# Altium schematic symbol library Transistor.SchLib: 37 symbols
Pins are listed as number, name and electrical type; pins without a type are passive.

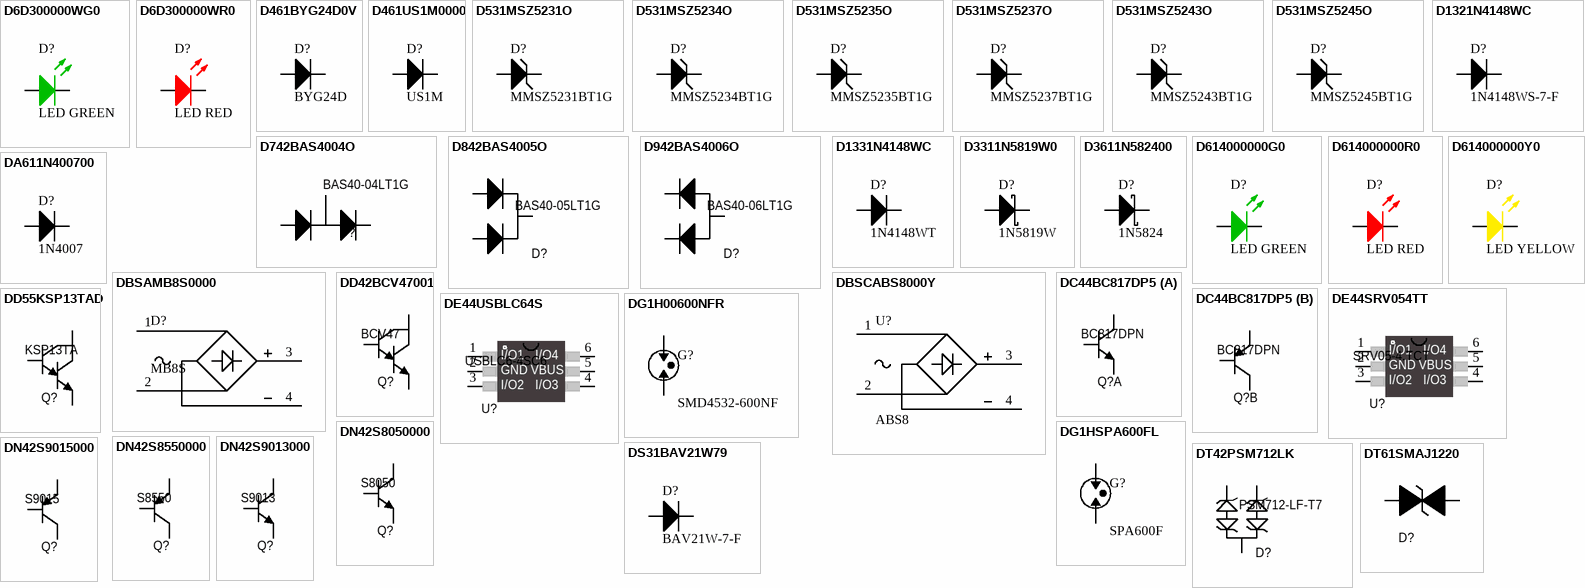
[diagram p0: symbols D6D300000WG0 to DT61SMAJ1220]

## D6D300000WG0
designator D?, comment LED GREEN
LIGHT EMITTING DIODE 3MM GREEN; TemperatureRange: -30 to 85°C; VenderID: LED-3MM-GREEN; Published: 1-Jun-2017; Publisher: GreenBox; PackageReference: LED-3MM-0; MountType: DIP; Manufacturer: *
footprint LED-3MM-0 (Typical INFRARED GaAs LED; 2 Leads)
simulation model LED0 (Diode)
pins: 1, 2

## D6D300000WR0
designator D?, comment LED RED
LIGHT EMITTING DIODE 3MM RED; TemperatureRange: -30 to 85°C; VenderID: LED-3MM-RED; Published: 1-Jun-2017; Publisher: GreenBox; PackageReference: LED-3MM-0; MountType: DIP; Manufacturer: *
footprint LED-3MM-0 (Typical INFRARED GaAs LED; 2 Leads)
simulation model LED0 (Diode)
pins: 1, 2

## D461BYG24D0V
designator D?, comment BYG24D
Fast Recovery Rectifiers BYG24D Vrrm 200V If 1.5A 140nS; Manufacturer: VISHAY; TemperatureRange: -55°C to 150°C; Published: 1-Jun-2017; Publisher: GreenBox; PackageReference: DO-214AC; MountType: SMT; VenderID: BYG24D
footprint DO-214AC (DO-214-AC/SMA; 2 C-Bend Leads; Body 5 x 2.7 mm, inc. leads (LxW))
pins: 1 A, 2 K

## D461US1M0000
designator D?, comment US1M
Fast Recovery Rectifiers US1M Vrrm 1000V If 1A 75nS; TemperatureRange: -65°C to 150°C; Published: 1-Jun-2017; Publisher: GreenBox; PackageReference: DO-214AC; MountType: SMT; VenderID: US1M; Manufacturer: *
footprint DO-214AC (DO-214-AC/SMA; 2 C-Bend Leads; Body 5 x 2.7 mm, inc. leads (LxW))
pins: 1 A, 2 K

## D531MSZ5231O
designator D?, comment MMSZ5231BT1G
Zener Voltage Regulators MMSZ5231BT1G 5V1 0W5; Manufacturer: ON SEMICONDUCTOR; TemperatureRange: -55°C to 150°C; Published: 1-Jun-2017; Publisher: GreenBox; PackageReference: SOD-123; MountType: SMT; VenderID: MMSZ5231BT1G
footprint SOD-123 (SOD-123/SC-77; 2 Leads; Body 2.7 x 1.6 mm, (LxW))
pins: 1 A, 2 K

## D531MSZ5234O
designator D?, comment MMSZ5234BT1G
Zener Voltage Regulators MMSZ5234BT1G 6V2 0W5; Manufacturer: ON SEMICONDUCTOR; TemperatureRange: -55°C to 150°C; Published: 1-Jun-2017; Publisher: GreenBox; PackageReference: SOD-123; MountType: SMT; VenderID: MMSZ5234BT1G
footprint SOD-123 (SOD-123/SC-77; 2 Leads; Body 2.7 x 1.6 mm, (LxW))
pins: 1 A, 2 K

## D531MSZ5235O
designator D?, comment MMSZ5235BT1G
Zener Voltage Regulators MMSZ5235BT1G 6V8 0W5; Manufacturer: ON SEMICONDUCTOR; TemperatureRange: -55°C to 150°C; Published: 1-Jun-2017; Publisher: GreenBox; PackageReference: SOD-123; MountType: SMT; VenderID: MMSZ5235BT1G
footprint SOD-123 (SOD-123/SC-77; 2 Leads; Body 2.7 x 1.6 mm, (LxW))
pins: 1 A, 2 K

## D531MSZ5237O
designator D?, comment MMSZ5237BT1G
Zener Voltage Regulators MMSZ5237BT1G 8V2 0W5; Manufacturer: ON SEMICONDUCTOR; TemperatureRange: -55°C to 150°C; Published: 1-Jun-2017; Publisher: GreenBox; PackageReference: SOD-123; MountType: SMT; VenderID: MMSZ5237BT1G
footprint SOD-123 (SOD-123/SC-77; 2 Leads; Body 2.7 x 1.6 mm, (LxW))
pins: 1 A, 2 K

## D531MSZ5243O
designator D?, comment MMSZ5243BT1G
Zener Voltage Regulators MMSZ5243BT1G 13V 0W5; Manufacturer: ON SEMICONDUCTOR; TemperatureRange: -55°C to 150°C; Published: 1-Jun-2017; Publisher: GreenBox; PackageReference: SOD-123; MountType: SMT; VenderID: MMSZ5243BT1G
footprint SOD-123 (SOD-123/SC-77; 2 Leads; Body 2.7 x 1.6 mm, (LxW))
pins: 1 A, 2 K

## D531MSZ5245O
designator D?, comment MMSZ5245BT1G
Zener Voltage Regulators MMSZ5245BT1G 15V 0W5; Manufacturer: ON SEMICONDUCTOR; TemperatureRange: -55°C to 150°C; Published: 1-Jun-2017; Publisher: GreenBox; PackageReference: SOD-123; MountType: SMT; VenderID: MMSZ5245BT1G
footprint SOD-123 (SOD-123/SC-77; 2 Leads; Body 2.7 x 1.6 mm, (LxW))
pins: 1 A, 2 K

## D742BAS4004O
designator D?, comment BAS40-04LT1G
Dual Series Schottky Barrier Diode BAS40-04LT1G Vrrm 40V If 0.12A Ir 1uA; Manufacturer: ON SEMICONDUCTOR; TemperatureRange: -55 to 150°C; MountType: SMT; PackageReference: SOT-23; Published: 1-Jun-2017; Publisher: GreenBox; VenderID: BAS40-04LT1G
footprint SOT-23_N (SOT23, 3-Leads, Body 2.9x1.3mm, Pitch 0.95mm, Lead Span 2.5mm, IPC Medium Density)
footprint SOT-23_L (SOT23, 3-Leads, Body 2.9x1.3mm, Pitch 0.95mm, Lead Span 2.5mm, IPC High Density)
footprint SOT-23_M (SOT23, 3-Leads, Body 2.9x1.3mm, Pitch 0.95mm, Lead Span 2.5mm, IPC Low Density)
pins: 1 A, 2 K, 3 C

## D842BAS4005O
designator D?, comment BAS40-05LT1G
Dual Series Schottky Barrier Diode BAS40-05LT1G Vrrm 40V If 0.12A Ir 1uA; Manufacturer: ON SEMICONDUCTOR; TemperatureRange: -55 to 150°C; MountType: SMT; PackageReference: SOT-23; Published: 1-Jun-2017; Publisher: GreenBox; VenderID: BAS40-05LT1G
footprint SOT-23_N (SOT23, 3-Leads, Body 2.9x1.3mm, Pitch 0.95mm, Lead Span 2.5mm, IPC Medium Density)
footprint SOT-23_L (SOT23, 3-Leads, Body 2.9x1.3mm, Pitch 0.95mm, Lead Span 2.5mm, IPC High Density)
footprint SOT-23_M (SOT23, 3-Leads, Body 2.9x1.3mm, Pitch 0.95mm, Lead Span 2.5mm, IPC Low Density)
pins: 1, 2, 3

## D942BAS4006O
designator D?, comment BAS40-06LT1G
Dual Series Schottky Barrier Diode BAS40-06LT1G Vrrm 40V If 0.12A Ir 1uA; Manufacturer: ON SEMICONDUCTOR; TemperatureRange: -55 to 150°C; MountType: SMT; PackageReference: SOT-23; Published: 1-Jun-2017; Publisher: GreenBox; VenderID: BAS40-06LT1G
footprint SOT-23_N (SOT23, 3-Leads, Body 2.9x1.3mm, Pitch 0.95mm, Lead Span 2.5mm, IPC Medium Density)
footprint SOT-23_L (SOT23, 3-Leads, Body 2.9x1.3mm, Pitch 0.95mm, Lead Span 2.5mm, IPC High Density)
footprint SOT-23_M (SOT23, 3-Leads, Body 2.9x1.3mm, Pitch 0.95mm, Lead Span 2.5mm, IPC Low Density)
pins: 1, 2, 3

## D1321N4148WC
designator D?, comment 1N4148WS-7-F
SIGNAL DIODE 1N4148WS-7-F Vrrm 75V If 1A; Manufacturer: CHANGJIANG ELECTRONICS; TemperatureRange: -65°C to 150°C; Published: 1-Jun-2017; Publisher: GreenBox; PackageReference: SOD-323; MountType: SMT; VenderID: 1N4148WS-7-F
footprint SOD-323 (SOD-323/SC-76; 2 Leads; Body 1.7 x 1.3 mm, (LxW))
pins: 1 A, 2 K

## D1331N4148WC
designator D?, comment 1N4148WT
SIGNAL DIODE 1N4148WT Vrrm 75V If 1A; Manufacturer: CHANGJIANG ELECTRONICS; TemperatureRange: -65°C to 150°C; Published: 1-Jun-2017; Publisher: GreenBox; PackageReference: SOD-523; MountType: SMT; VenderID: 1N4148WT
footprint SOD-523 (SOD-523/SC-79; 2 Leads; Body 1.2 x 0.8 mm, (LxW))
pins: 1 A, 2 K

## D3311N5819W0
designator D?, comment 1N5819W
SCHOTTKY BARRIER DIODE 1N5819W(SS14) Vrrm 40V If 1A; TemperatureRange: -55°C to 150°C; Published: 1-Jun-2017; Publisher: GreenBox; PackageReference: SOD-123; MountType: SMT; VenderID: 1N5819W; Manufacturer: *
footprint SOD-123 (SOD-123/SC-77; 2 Leads; Body 2.7 x 1.6 mm, (LxW))
pins: 1 A, 2 K

## D3611N582400
designator D?, comment 1N5824
SCHOTTKY BARRIER DIODE 1N5824(SS54) Vrrm 30V If 5A; TemperatureRange: -55°C to 150°C; Published: 1-Jul-2018; Publisher: GreenBox; PackageReference: DO-214AC; MountType: SMT; VenderID: 1N5824; Manufacturer: *
footprint DO-214AC (DO-214-AC/SMA; 2 C-Bend Leads; Body 5 x 2.7 mm, inc. leads (LxW))
pins: 1 A, 2 K

## D614000000G0
designator D?, comment LED GREEN
LIGHT EMITTING DIODE 0805 GREEN; TemperatureRange: -30 to 85°C; VenderID: LED-0805-GREEN; Published: 1-Jun-2017; Publisher: GreenBox; PackageReference: 0805; MountType: SMT; Manufacturer: *
footprint 0805-LED-G (0805, Body 2.0 x 1.3 mm (LxW typ))
simulation model LED0 (Diode)
pins: 1, 2

## D614000000R0
designator D?, comment LED RED
LIGHT EMITTING DIODE 0805 RED; TemperatureRange: -30 to 85°C; VenderID: LED-0805-RED; Published: 1-Jun-2017; Publisher: GreenBox; PackageReference: 0805; MountType: SMT; Manufacturer: *
footprint 0805-LED-R (0805, Body 2.0 x 1.3 mm (LxW typ))
simulation model LED0 (Diode)
pins: 1, 2

## D614000000Y0
designator D?, comment LED YELLOW
LIGHT EMITTING DIODE 0805 YELLOW; TemperatureRange: -30 to 85°C; VenderID: LED-0805-YELLOW; Published: 1-Jun-2017; Publisher: GreenBox; PackageReference: 0805; MountType: SMT; Manufacturer: *
footprint 0805-LED-Y (0805, Body 2.0 x 1.3 mm (LxW typ))
simulation model LED0 (Diode)
pins: 1, 2

## DA611N400700
designator D?, comment 1N4007
General Purpose Rectifiers 1N4007 Vrrm 1000V If 1A; TemperatureRange: -55°C to 150°C; Published: 1-Jun-2017; Publisher: GreenBox; PackageReference: DO-214AC; MountType: SMT; VenderID: 1N4007; Manufacturer: *
footprint DO-214AC (DO-214-AC/SMA; 2 C-Bend Leads; Body 5 x 2.7 mm, inc. leads (LxW))
pins: 1 A, 2 K

## DBSAMB8S0000
designator D?, comment MB8S
Bridge Rectifiers MB8S 800V 0.5A; Manufacturer: ON SEMICONDUCTOR; TemperatureRange: -55°C to 150°C; Published: 1-Jun-2017; Publisher: GreenBox; PackageReference: MBS-1; MountType: SMT; VenderID: MB8S
footprint MBS-1 (DF-S Pitch 5.1mm)
pins: 1 AC, 2 AC, 3 +, 4 -

## DBSCABS8000Y
designator U?, comment ABS8
Bridge Rectifiers ABS8 800V 0.8A; Manufacturer: HY; TemperatureRange: -55°C to 150°C; Publisher: GreenBox; Published: 1-Jun-2017; MountType: SMT; PackageReference: ABS-1; VenderID: ABS8
footprint ABS-1 (DF-S Pitch 2.54mm)
pins: 1 AC, 2 AC, 3 +, 4 -

## DC44BC817DP5
designator Q?, comment BC817DPN
BJT ARRAY BC817DPN Ic 500mA Vceo 45V; Manufacturer: NXP; TemperatureRange: -55 to 150°C; MountType: SMT; PackageReference: SOT-23-6; Published: 1-Jun-2017; Publisher: GreenBox; VenderID: BC817DPN
footprint SOT-23-6 (SOT23-6, 6-Leads, Body 2.9x1.3mm, Pitch 0.95mm, Lead Span 2.5mm)
part A pins: 1 E, 2 B, 6 C
part B pins: 3 C, 4 E, 5 B

## DD42BCV47001
designator Q?, comment BCV47
NPN Darlington Transistor BCV47; Manufacturer: NEXPERIA; TemperatureRange: -55 to 150°C; MountType: SMT; PackageReference: SOT-23; Published: 1-Jun-2017; Publisher: GreenBox; VenderID: BCV47
footprint SOT-23_N (SOT23, 3-Leads, Body 2.9x1.3mm, Pitch 0.95mm, Lead Span 2.5mm, IPC Medium Density)
footprint SOT-23_L (SOT23, 3-Leads, Body 2.9x1.3mm, Pitch 0.95mm, Lead Span 2.5mm, IPC High Density)
footprint SOT-23_M (SOT23, 3-Leads, Body 2.9x1.3mm, Pitch 0.95mm, Lead Span 2.5mm, IPC Low Density)
pins: 1 B, 2 E, 3 C

## DD55KSP13TAD
designator Q?, comment KSP13TA
NPN Darlington Transistor KSP13TA; Manufacturer: FAIRCHILD SEMICONDUCTOR; TemperatureRange: -55 to 150°C; MountType: DIP; PackageReference: TO-92; Published: 1-Jun-2017; Publisher: GreenBox; VenderID: KSP13TA
footprint TO92B
pins: 1 E, 2 B, 3 C

## DE44SRV054TT
designator U?, comment SRV05-4.TCT
ESD Protection SRV05-4.TCT; Manufacturer: SMETECH; TemperatureRange: -55°C to 125°C; MountType: SMT; PackageReference: SOT-23-6; Published: 1-Jun-2017; Publisher: GreenBox; VenderID: SRV05-4.TCT
footprint SOT-23-6 (SOT23-6, 6-Leads, Body 2.9x1.3mm, Pitch 0.95mm, Lead Span 2.5mm)
pins: 1 I/O1, 2 GND, 3 I/O2, 4 I/O3, 5 VBUS, 6 I/O4

## DE44USBLC64S
designator U?, comment USBLC6-4SC6
ESD Protection USBLC6-4SC6; Manufacturer: ST; TemperatureRange: -55°C to 150°C; MountType: SMT; PackageReference: SOT-23-6; Published: 1-Jun-2017; Publisher: GreenBox; VenderID: USBLC6-4SC6
footprint SOT-23-6 (SOT23-6, 6-Leads, Body 2.9x1.3mm, Pitch 0.95mm, Lead Span 2.5mm)
pins: 1 I/O1, 2 GND, 3 I/O2, 4 I/O3, 5 VBUS, 6 I/O4

## DG1H00600NFR
designator G?, comment SMD4532-600NF
SMD GDT SMD4532-600NF 1812 600V 2.5KA; Manufacturer: RUILON; TemperatureRange: -30°C to 85°C; Published: 1-Jun-2017; Publisher: GreenBox; PackageReference: 1812; MountType: SMT; VenderID: SMD4532-600NF
footprint 1812-GDT
pins: 1, 2

## DG1HSPA600FL
designator G?, comment SPA600F
SMD GDT SPA600F 1812 600V 2.5KA; Manufacturer: SPSEMI; TemperatureRange: -40°C to 125°C; Published: 1-Jun-2017; Publisher: GreenBox; PackageReference: 1812; MountType: SMT; VenderID: SPA600F
footprint 1812
pins: 1, 2

## DN42S8050000
designator Q?, comment S8050
NPN S8050 Icm 0.5A Vcbo 40V; TemperatureRange: -55 to 150°C; Manufacturer: *; MountType: SMT; PackageReference: SOT-23; Published: 1-Jun-2017; Publisher: GreenBox; VenderID: S8050
footprint SOT-23_N (SOT23, 3-Leads, Body 2.9x1.3mm, Pitch 0.95mm, Lead Span 2.5mm, IPC Medium Density)
footprint SOT-23_L (SOT23, 3-Leads, Body 2.9x1.3mm, Pitch 0.95mm, Lead Span 2.5mm, IPC High Density)
footprint SOT-23_M (SOT23, 3-Leads, Body 2.9x1.3mm, Pitch 0.95mm, Lead Span 2.5mm, IPC Low Density)
pins: 1 B, 2 E, 3 C

## DN42S8550000
designator Q?, comment S8550
PNP S8550 Icm -0.5A Vcbo -40V; TemperatureRange: -55 to 150°C; Manufacturer: *; MountType: SMT; PackageReference: SOT-23; Published: 1-Jun-2017; Publisher: GreenBox; VenderID: S8550
footprint SOT-23_N (SOT23, 3-Leads, Body 2.9x1.3mm, Pitch 0.95mm, Lead Span 2.5mm, IPC Medium Density)
footprint SOT-23_L (SOT23, 3-Leads, Body 2.9x1.3mm, Pitch 0.95mm, Lead Span 2.5mm, IPC High Density)
footprint SOT-23_M (SOT23, 3-Leads, Body 2.9x1.3mm, Pitch 0.95mm, Lead Span 2.5mm, IPC Low Density)
pins: 1 B, 2 E, 3 C

## DN42S9013000
designator Q?, comment S9013
NPN S9013 Ic 500mA Vceo 20V; TemperatureRange: -55 to 150°C; Manufacturer: *; MountType: SMT; PackageReference: SOT-23; Published: 1-Jun-2017; Publisher: GreenBox; VenderID: S9013
footprint SOT-23_N (SOT23, 3-Leads, Body 2.9x1.3mm, Pitch 0.95mm, Lead Span 2.5mm, IPC Medium Density)
footprint SOT-23_L (SOT23, 3-Leads, Body 2.9x1.3mm, Pitch 0.95mm, Lead Span 2.5mm, IPC High Density)
footprint SOT-23_M (SOT23, 3-Leads, Body 2.9x1.3mm, Pitch 0.95mm, Lead Span 2.5mm, IPC Low Density)
pins: 1 B, 2 E, 3 C

## DN42S9015000
designator Q?, comment S9015
PNP S9015 Ic 100mA Vceo 45V; TemperatureRange: -55 to 150°C; Manufacturer: *; MountType: SMT; PackageReference: SOT-23; Published: 1-Jun-2017; Publisher: GreenBox; VenderID: S9015
footprint SOT-23_N (SOT23, 3-Leads, Body 2.9x1.3mm, Pitch 0.95mm, Lead Span 2.5mm, IPC Medium Density)
footprint SOT-23_L (SOT23, 3-Leads, Body 2.9x1.3mm, Pitch 0.95mm, Lead Span 2.5mm, IPC High Density)
footprint SOT-23_M (SOT23, 3-Leads, Body 2.9x1.3mm, Pitch 0.95mm, Lead Span 2.5mm, IPC Low Density)
pins: 1 B, 2 E, 3 C

## DS31BAV21W79
designator D?, comment BAV21W-7-F
Switching Diode BAV21W-7-F Vrrm 200V If 2A 50nS; Manufacturer: PANJIT; TemperatureRange: -55°C to 150°C; Published: 1-Jun-2017; Publisher: GreenBox; PackageReference: SOD-123; MountType: SMT; VenderID: BAV21W-7-F
footprint SOD-123 (SOD-123/SC-77; 2 Leads; Body 2.7 x 1.6 mm, (LxW))
pins: 1 A, 2 K

## DT42PSM712LK
designator D?, comment PSM712-LF-T7
TVS PSM712-LF-T7 Vbr 7.5V, 13.3V Vc/Ipp 17V/34A, 30V/30A (3-1 3-2, 1-3 2-3); Manufacturer: PROTEK DEVICES; TemperatureRange: -55°C to 150°C; MountType: SMT; PackageReference: SOT-23; Published: 1-Jun-2017; Publisher: GreenBox; VenderID: PSM712-LF-T7
footprint SOT-23_N (SOT23, 3-Leads, Body 2.9x1.3mm, Pitch 0.95mm, Lead Span 2.5mm, IPC Medium Density)
footprint SOT-23_L (SOT23, 3-Leads, Body 2.9x1.3mm, Pitch 0.95mm, Lead Span 2.5mm, IPC High Density)
footprint SOT-23_M (SOT23, 3-Leads, Body 2.9x1.3mm, Pitch 0.95mm, Lead Span 2.5mm, IPC Low Density)
pins: 1, 2, 3

## DT61SMAJ1220
designator D?, comment SMAJ12CA  (value not drawn)
TVS BIDIRECTIONAL SMAJ12CA Vbr 13.3V Vc/Ipp 19.9V/20.1A; TemperatureRange: -55 to 150°C; Manufacturer: *; MountType: SMT; PackageReference: DO-214AC; Published: 1-Jun-2017; Publisher: GreenBox; VenderID: SMAJ12CA
footprint DO-214AC (DO-214-AC/SMA; 2 C-Bend Leads; Body 5 x 2.7 mm, inc. leads (LxW))
pins: 1, 2